# Altium schematic symbol library Aspectu.SchLib: 9 symbols
Pins are listed as number, name and electrical type; pins without a type are passive.

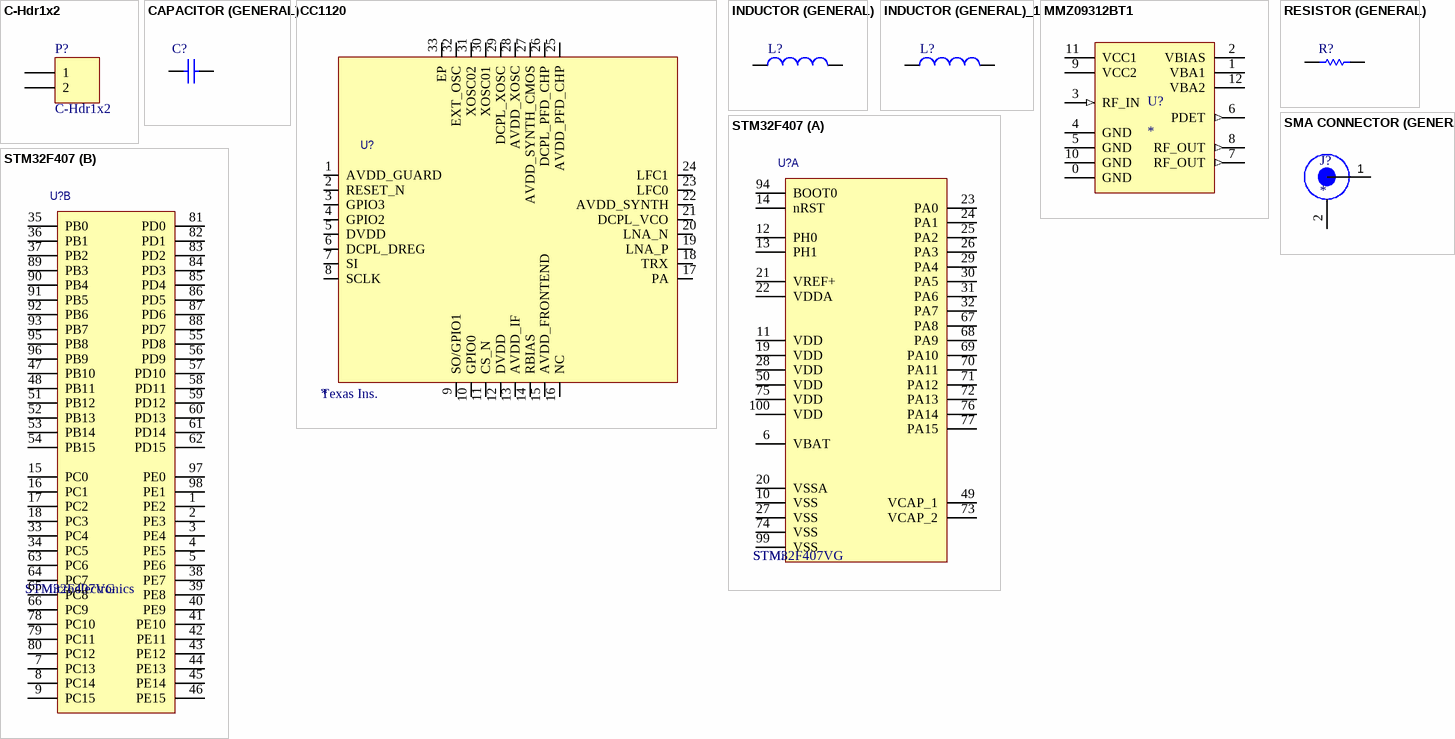
[diagram p0: symbols C-Hdr1x2 to STM32F407]

## C-Hdr1x2
designator P?
Header, 2-Pin; LatestRevisionDate: 17-Jul-2002; LatestRevisionNote: Re-released for DXP Platform.; Publisher: Altium Limited; Supplier 1: Digi-Key; Supplier Part Number 1: 732-5315-ND
signal-integrity model Connector
footprint HDR1X2_LGE1.0 (Connector; Header; 2 Position; 2.54mm (100mil) pitch)
pins: 1, 2

## CAPACITOR (GENERAL)
designator C?
Capacitor; Supplier 1: Digi-Key; Supplier Part Number 1: *; Value: *
footprint C0805 (Chip Capacitor, Body 2.0x1.3mm, IPC High Density)
footprint 1812 (Chip Capacitor, Body 4.5x3.2mm, IPC High Density)
footprint 1825 (Chip Capacitor, Body 4.5x6.4mm, IPC High Density)
footprint C2225 (Chip Capacitor, Body 5.7x6.4mm, IPC High Density)
footprint 2220 (Chip Capacitor, Body 5.7x5.0mm, IPC High Density)
simulation model CAP (Capacitor)
signal-integrity model Cap Pol
pins: 1, 2
1 alternate drawing of the same symbol

## CC1120
designator U?  Manufacturer: Texas Ins.  (hidden comment: *)
Distributor: Digi-Key; Distributor Part Number: *; Manufacturer Part Number: *
pins: 1 AVDD_GUARD, 2 RESET_N, 3 GPIO3, 4 GPIO2, 5 DVDD, 6 DCPL_DREG, 7 SI, 8 SCLK, 9 SO/GPIO1, 10 GPIO0, 11 CS_N, 12 DVDD, 13 AVDD_IF, 14 RBIAS, 15 AVDD_FRONTEND, 16 NC, 17 PA, 18 TRX, 19 LNA_P, 20 LNA_N, 21 DCPL_VCO, 22 AVDD_SYNTH, 23 LFC0, 24 LFC1, 25 AVDD_PFD_CHP, 26 DCPL_PFD_CHP, 27 AVDD_SYNTH_CMOS, 28 AVDD_XOSC, 29 DCPL_XOSC, 30 XOSC01, 31 XOSC02, 32 EXT_OSC, 33 EP

## INDUCTOR (GENERAL)
designator L?
Inductor; Supplier 1: Digi-Key; Supplier Part Number 1: *; Value: *
footprint 0402-A (Chip Inductor, Body 1.0x0.5mm, IPC High Density)
footprint INDC1608L (Chip Inductor, Body 1.6x0.8mm, IPC High Density)
footprint 2029 (Chip Inductor, Body 2.0x1.2mm, IPC High Density)
footprint 0603 (Chip Inductor, Body 0.6x0.3mm, IPC High Density)
footprint INDC3216 (Chip Inductor, Body 3.2x1.6mm, IPC High Density)
footprint INDC4532 (Chip Inductor, Body 4.5x3.2mm, IPC High Density)
simulation model INDUCTOR (Inductor)
signal-integrity model Inductor
pins: 1, 2

## INDUCTOR (GENERAL)_1
designator L?
Inductor; Supplier 1: Digi-Key; Supplier Part Number 1: 490-6577-1-ND; Value: *
footprint 0402-A (Chip Inductor, Body 1.0x0.5mm, IPC High Density)
footprint INDC1608L (Chip Inductor, Body 1.6x0.8mm, IPC High Density)
footprint 2029 (Chip Inductor, Body 2.0x1.2mm, IPC High Density)
footprint 0603 (Chip Inductor, Body 0.6x0.3mm, IPC High Density)
footprint INDC3216 (Chip Inductor, Body 3.2x1.6mm, IPC High Density)
footprint INDC4532 (Chip Inductor, Body 4.5x3.2mm, IPC High Density)
simulation model INDUCTOR (Inductor)
signal-integrity model Inductor
pins: 1, 2

## MMZ09312BT1
designator U?
IC RF AMP CDMA 400MHZ-1GHZ 12QFN; Supplier 1: Digi-Key; Supplier Part Number 1: MMZ09312BT1TR-ND
footprint QFN 3x3 (QFN, 12-Leads, Body 3.00x3.00mm, Pitch 0.50mm, Thermal Pad 1.50x1.50mm, IPC Medium Density (MMZ))
pins: 0 GND, 1 VBA1 (power), 2 VBIAS (power), 3 RF_IN (in), 4 GND, 5 GND, 6 PDET (out), 7 RF_OUT (out), 8 RF_OUT (out), 9 VCC2 (power), 10 GND, 11 VCC1 (power), 12 VBA2 (power)

## RESISTOR (GENERAL)
designator R?
Resistor; Supplier 1: Digi-Key; Supplier Part Number 1: TBD; Value: *
pins: 1, 2

## SMA CONNECTOR (GENERAL)
designator J?
Supplier 1: Digi-Key; Supplier Part Number 1: *
pins: 1, 2

## STM32F407
designator U?, comment Manufacturer: STMicroelectronics  (hidden comment: STM32F407VG)
Distributor: Digi-Key; Distributor Part Number: *; Manufacturer Part Number: STM32F407VG
part A pins: 6 VBAT, 10 VSS, 11 VDD, 12 PH0, 13 PH1, 14 nRST, 19 VDD, 20 VSSA, 21 VREF+, 22 VDDA, 23 PA0, 24 PA1, 25 PA2, 26 PA3, 27 VSS, 28 VDD, 29 PA4, 30 PA5, 31 PA6, 32 PA7, 49 VCAP_1, 50 VDD, 67 PA8, 68 PA9, 69 PA10, 70 PA11, 71 PA12, 72 PA13, 73 VCAP_2, 74 VSS, 75 VDD, 76 PA14, 77 PA15, 94 BOOT0, 99 VSS, 100 VDD
part B pins: 1 PE2, 2 PE3, 3 PE4, 4 PE5, 5 PE6, 7 PC13, 8 PC14, 9 PC15, 15 PC0, 16 PC1, 17 PC2, 18 PC3, 33 PC4, 34 PC5, 35 PB0, 36 PB1, 37 PB2, 38 PE7, 39 PE8, 40 PE9, 41 PE10, 42 PE11, 43 PE12, 44 PE13, 45 PE14, 46 PE15, 47 PB10, 48 PB11, 51 PB12, 52 PB13, 53 PB14, 54 PB15, 55 PD8, 56 PD9, 57 PD10, 58 PD11, 59 PD12, 60 PD13, 61 PD14, 62 PD15, 63 PC6, 64 PC7, 65 PC8, 66 PC9, 78 PC10, 79 PC11, 80 PC12, 81 PD0, 82 PD1, 83 PD2, 84 PD3, 85 PD4, 86 PD5, 87 PD6, 88 PD7, 89 PB3, 90 PB4, 91 PB5, 92 PB6, 93 PB7, 95 PB8, 96 PB9, 97 PE0, 98 PE1